# EAGLE library part MCP73830T-2AAI/MYY (library MCP73830T-2AAI-MYY - Microchip Technology)
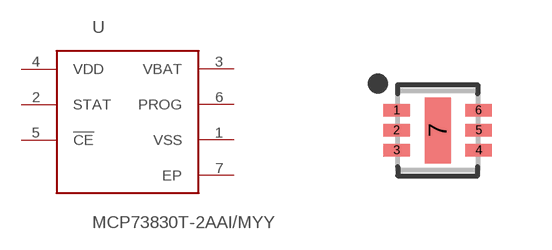
[diagram p0: symbol with the pads of 6-TDFN(2X2); footprint 6-TDFN(2X2)]

Designator prefix U

## MCP73830T-2AAI/MYY  [6-TDFN(2X2)]
1  VSS  pwr
2  STAT  oc
3  VBAT  pwr
4  VDD  pwr
5  !CE  in
6  PROG  pas
7  EP  pas

## Footprint 6-TDFN(2X2) (pad centres in mm)
6-SON (DFN), 0.50 mm pitch, 2.00 X 2.00 X 0.80 mm body, 1.65 X 0.65 mm thermal pad 6-pin SON (DFN) package with 0.50 mm pitch with body size 2.00 X 2.00 X 0.80 mm and thermal pad size 1.65 X 0.65 mm
smd 0.661 x 0.32: 1 -1.026,0.5; 2 -1.026,0; 3 -1.026,-0.5; 4 1.026,-0.5; 5 1.026,0; 6 1.026,0.5
smd 0.65 x 1.65: 7 0,0